# Altium footprint library PcbLib1.PcbLib: 3 footprints
Each footprint in its own frame and in the unit in brackets; x right, y up, seen from the top. Pads: shape width x height; smd on the part's side, far side on the other; paste and mask are expansions set on the pad; w line width, h text height; cw(c..) or ccw(c..) is an arc to the next point about the centre after c.
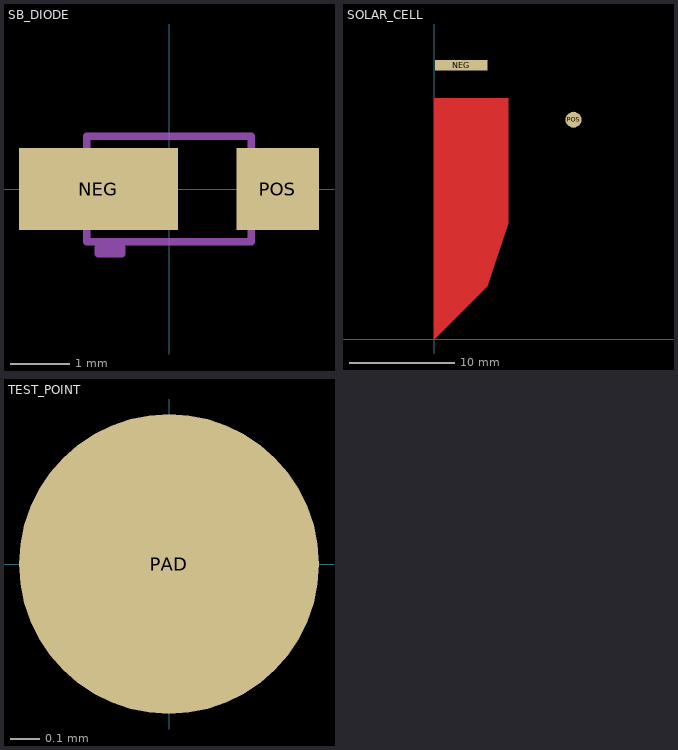
[diagram p0: the footprints below, top view; thin cyan lines are the x and y axes]

## SB_DIODE [mil]
pads (2):
  rect 106.3x55.12 smd: NEG(-47.24,0)
  rect 55.12x55.12 smd: POS(72.83,0)
Mechanical 7:
  lines w5: -55.12,-35.43 -55.12,35.43 55.12,35.43 55.12,-35.43 -55.12,-35.43 ; -47.24,-43.31 -31.5,-43.31 -31.5,-39.37 -47.24,-39.37 -47.24,-43.31

## SOLAR_CELL [mil]
pads (2):
  rect 196.85x39.37 smd: NEG(100,1023.62)
  round 60 smd: POS(520,820)
Top Layer:
  region: 0,900 275.59,900 275.59,433.07 196.85,196.85 0,0

## TEST_POINT [mil]
pads (1):
  round 40 smd: PAD(0,0)